# Altium footprint library CONN IPL1-105-02-X-D.PcbLib: 1 footprints
Each footprint in its own frame and in the unit in brackets; x right, y up, seen from the top. Pads: shape width x height; smd on the part's side, far side on the other; paste and mask are expansions set on the pad; w line width, h text height; cw(c..) or ccw(c..) is an arc to the next point about the centre after c.
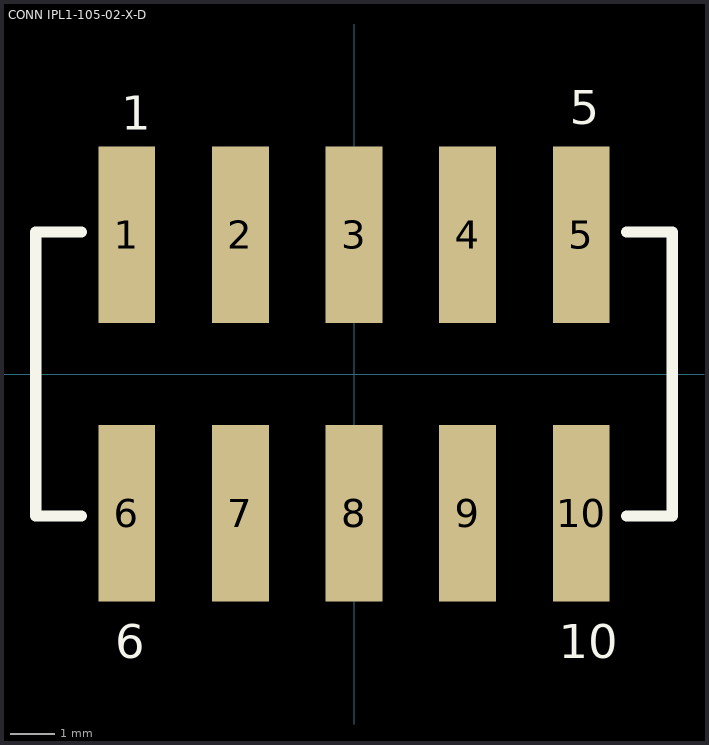
[diagram p0: the footprint, top view; thin cyan lines are the x and y axes]

## CONN IPL1-105-02-X-D [mil]
pads (10):
  rect 50x155 smd: 1(-200,122.5) 2(-100,122.5) 3(0,122.5) 4(100,122.5) 5(200,122.5) 6(-200,-122.5) 7(-100,-122.5) 8(0,-122.5) 9(100,-122.5) 10(200,-122.5)
Top Overlay:
  lines w10: -240,-125 -280,-125 -280,125 -240,125 ; 240,-125 280,-125 280,125 240,125
  text "10" at 180,-250 h30
  text "6" at -210,-250 h30
  text "5" at 190,220 h30
  text "1" at -205,215 h30
3D body: height 345.6, standoff 0.6, extent -279.99,-188.49 280.01,188.51